# Altium footprint library Spectrolab.PcbLib: 1 footprints
Each footprint in its own frame and in the unit in brackets; x right, y up, seen from the top. Pads: shape width x height; smd on the part's side, far side on the other; paste and mask are expansions set on the pad; w line width, h text height; cw(c..) or ccw(c..) is an arc to the next point about the centre after c.
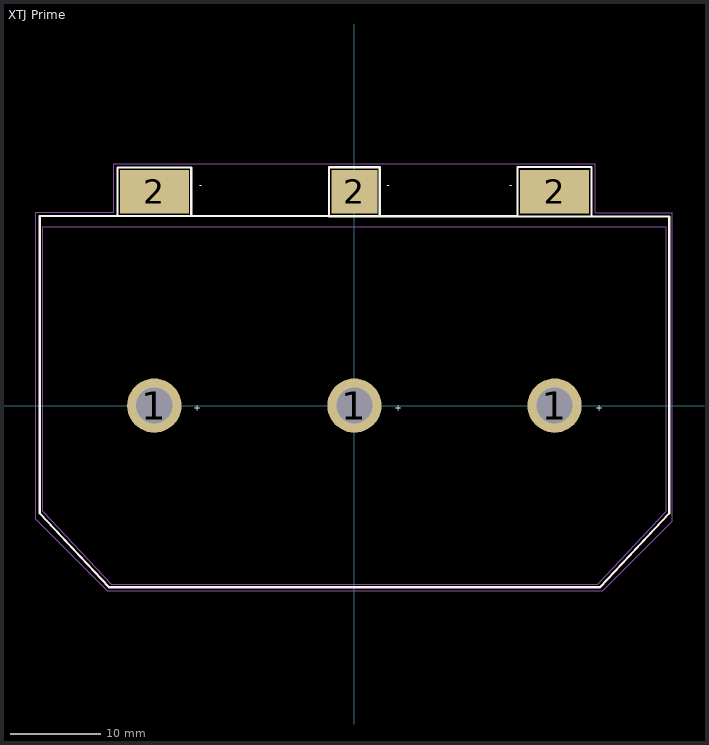
[diagram p0: the footprint, top view; thin cyan lines are the x and y axes]

## XTJ Prime [mil] "Spectrolab Solar Cell"
height 12.86
pads (6):
  round 236.22 hole 157.48: 1(-870.5,0) 1(0,0) 1(870.5,0)
  rect 300x190 smd: 2(-870.5,930) 2(870.5,930)
  rect 200x190 smd: 2(0,930)
Top Overlay:
  lines w10: -112,825 -710,825 ; 708,824 110,824 ; -1031,825 -1369,825 -1369,-468.55 -1067.61,-790 1067.61,-790 1369,-468.55 1369,823 1310,823 1031,823 ; -1031,825 -1031,1036 -710,1036 -710,825 ; -1031,825 -710,825 ; 110,824 110,1037 -111,1037 -111,824 110,824 ; 1031,823 1031,1038 709,1038 709,823 1031,823
  text "-" at -675,944.88 h27.56
  text "-" at 140,944.88 h27.56
  text "-" at 673,946 h27.56
  text "+" at -700,-25 h27.56
  text "+" at 175,-25 h27.56
  text "+" at 1050,-25 h27.56
Top Assembly:
  lines w3.94: -1356.5,-460 -1058.5,-777.5 1058.5,-777.5 1356.5,-460 1356.5,777.5 -1356.5,777.5 -1356.5,-460
Top Courtyard:
  lines w3.94: -1386,-494 -1204,-676 -1075,-805 1080,-805 1382,-503 1382,838 1048,838 1048,1052 -1047,1052 -1047,840 -1386,840 -1386,-494
3D body "solar_cell_terminal_large.SLDPRT": height 63.5, standoff 0.5, extent 749.89,769.78 986.11,1006
3D body "solar_cell_terminal_large.SLDPRT": height 63.5, standoff 0.5, extent -991.11,769.78 -754.89,1006
3D body "solar_cell_terminal_small.SLDPRT": height 63.5, standoff 0.5, extent -79.74,766.78 77.74,1003
3D body: height 12.86, standoff 0, extent -1356.5,-777.5 1356.5,777.5